# Altium footprint library DIP28(MicroPirani).PcbLib: 1 footprints
Each footprint in its own frame and in the unit in brackets; x right, y up, seen from the top. Pads: shape width x height; smd on the part's side, far side on the other; paste and mask are expansions set on the pad; w line width, h text height; cw(c..) or ccw(c..) is an arc to the next point about the centre after c.
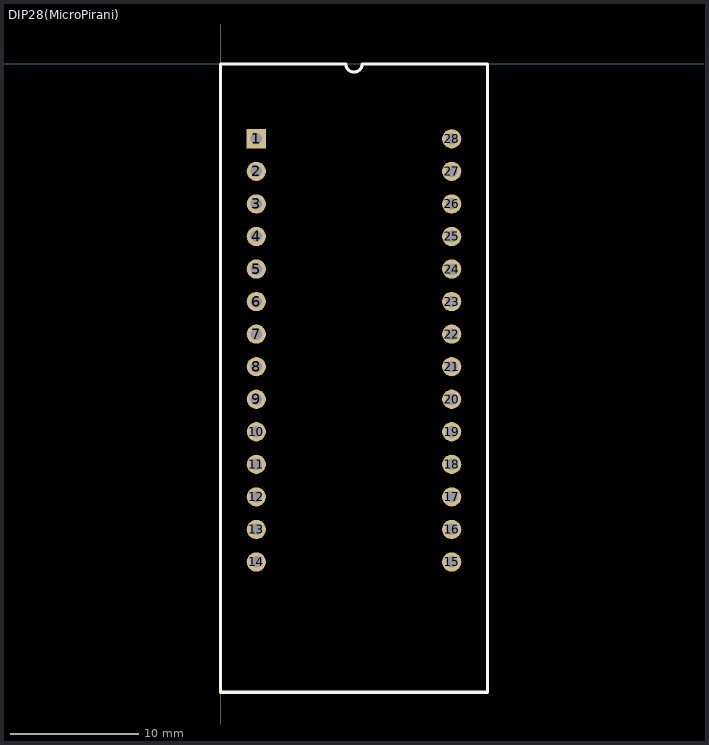
[diagram p0: the footprint, top view; thin cyan lines are the x and y axes]

## DIP28(MicroPirani) [mm]
pads (28):
  rect 1.5x1.5 hole 0.9: 1(2.794,-5.842)
  round 1.5 hole 0.9: 2(2.794,-8.382) 3(2.794,-10.922) 4(2.794,-13.462) 5(2.794,-16.002) 6(2.794,-18.542) 7(2.794,-21.082) 8(2.794,-23.622) 9(2.794,-26.162) 10(2.794,-28.702) 11(2.794,-31.242) 12(2.794,-33.782) 13(2.794,-36.322) 14(2.794,-38.862) 15(18.034,-38.862) 16(18.034,-36.322) 17(18.034,-33.782) 18(18.034,-31.242) 19(18.034,-28.702) 20(18.034,-26.162) 21(18.034,-23.622) 22(18.034,-21.082) 23(18.034,-18.542) 24(18.034,-16.002) 25(18.034,-13.462) 26(18.034,-10.922) 27(18.034,-8.382) 28(18.034,-5.842)
Top Overlay:
  lines w0.254: 0,-49.022 20.828,-49.022 20.828,0 11.049,0 cw(c10.414,0) 9.779,0 0,0 0,-8.509 0,-26.289 0,-49.022
3D body: height 8.89, standoff 0.03, extent 0,-49.022 20.828,0